# EAGLE library part ICM-20948 (library FaBo-Imu)
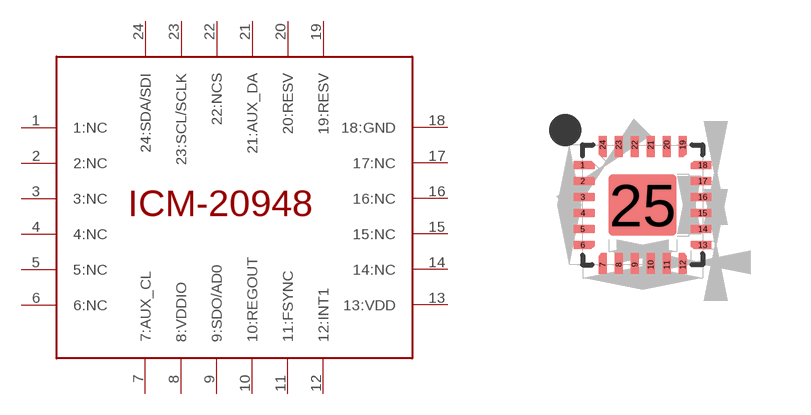
[diagram p1: symbol with the pads of QFN24; footprint QFN24]

Designator prefix -

## ICM-20948  [QFN24]
1  1:NC  nc
2  2:NC  nc
3  3:NC  nc
4  4:NC  nc
5  5:NC  nc
6  6:NC  nc
7  7:AUX_CL
8  8:VDDIO  pwr
9  9:SDO/AD0  out
10  10:REGOUT
11  11:FSYNC
12  12:INT1  out
13  13:VDD  pwr
14  14:NC  nc
15  15:NC  nc
16  16:NC  nc
17  17:NC  nc
18  18:GND  pwr
19  19:RESV
20  20:RESV
21  21:AUX_DA
22  22:NCS  in
23  23:SCL/SCLK
24  24:SDA/SDI

## Footprint QFN24 (pad centres in mm)
smd 0.44 x 0.2: 1 -1.5,1; 2 -1.5,0.6; 3 -1.5,0.2; 4 -1.5,-0.2; 5 -1.5,-0.6; 6 -1.5,-1; 13 1.5,-1; 14 1.5,-0.6; 15 1.5,-0.2; 16 1.5,0.2; 17 1.5,0.6; 18 1.5,1
smd 0.2 x 0.44: 7 -1,-1.5; 8 -0.6,-1.5; 9 -0.2,-1.5; 10 0.2,-1.5; 11 0.6,-1.5; 12 1,-1.5; 19 1,1.5; 20 0.6,1.5; 21 0.2,1.5; 22 -0.2,1.5; 23 -0.6,1.5; 24 -1,1.5
smd 1.7 x 1.54: 25 0,0